# Altium integrated library Zarlink Comm Data Access Arrangement.IntLib: 3 symbols
Pins are listed as number, name and electrical type; pins without a type are passive.

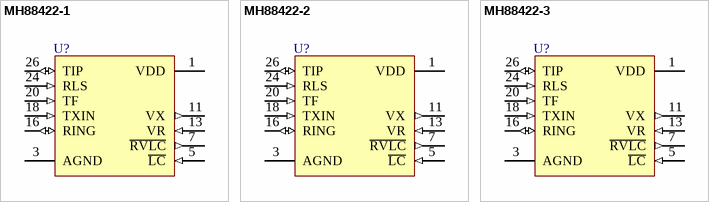
[diagram p0: symbols MH88422-1 to MH88422-3]

## MH88422-1
designator U?
Data Access Arrangement; Note: Pins 2, 4, 6, 8, 9, 10, 12, 14, 17, 21 and 25 are internally connected and cropped short. As a result they are not drawn. Pins 15, 19 and 23 are not present.; ComponentAvailability: Obsolete; Published: 8-Jun-2000; LatestRevisionDate: 17-Jul-2002; LatestRevisionNote: Re-released for DXP Platform.; DatasheetVersion: Issue 8 March 1997; PackageVersion: Mar-1997; PackageReference: DIL26; Publisher: Altium Limited; PackageDescription: DIP; 26 Leads (15 Absent); Row Spacing 22.86 mm; Pitch 2.54 mm; ComponentLink1Description: Manufacturer Link; ComponentLink1URL: http://products.zarlink.com; ComponentLink2Description: Datasheet; ComponentLink2URL: http://assets.zarlink.com/DS/zarlink_MH88422_OCT_01.pdf
footprint DIL26 (DIP; 26 Leads (15 Absent); Row Spacing 22.86 mm; Pitch 2.54 mm)
pins: 1 VDD (power), 3 AGND (power), 5 ~{LC} (in), 7 ~{RVLC} (out), 11 VX (out), 13 VR (in), 16 RING (io), 18 TXIN (in), 20 TF (in), 24 RLS (in), 26 TIP (io)

## MH88422-2
designator U?
Data Access Arrangement; Note: Pins 2, 4, 6, 8, 9, 10, 12, 14, 17, 21 and 25 are internally connected and cropped short. As a result they are not drawn. Pins 15, 19 and 23 are not present.; Published: 8-Jun-2000; LatestRevisionDate: 17-Jul-2002; LatestRevisionNote: Re-released for DXP Platform.; DatasheetVersion: Issue 8 March 1997; PackageVersion: Mar-1997; PackageReference: DIL26; Publisher: Altium Limited; PackageDescription: DIP; 26 Leads (15 Absent); Row Spacing 22.86 mm; Pitch 2.54 mm; ComponentLink1Description: Manufacturer Link; ComponentLink1URL: http://products.zarlink.com; ComponentLink2Description: Datasheet; ComponentLink2URL: http://assets.zarlink.com/DS/zarlink_MH88422_OCT_01.pdf
footprint DIL26 (DIP; 26 Leads (15 Absent); Row Spacing 22.86 mm; Pitch 2.54 mm)
pins: 1 VDD (power), 3 AGND (power), 5 ~{LC} (in), 7 ~{RVLC} (out), 11 VX (out), 13 VR (in), 16 RING (io), 18 TXIN (in), 20 TF (in), 24 RLS (in), 26 TIP (io)

## MH88422-3
designator U?
Data Access Arrangement; Note: Pins 2, 4, 6, 8, 9, 10, 12, 14, 17, 21 and 25 are internally connected and cropped short. As a result they are not drawn. Pins 15, 19 and 23 are not present.; ComponentAvailability: Obsolete; Published: 8-Jun-2000; LatestRevisionDate: 17-Jul-2002; LatestRevisionNote: Re-released for DXP Platform.; DatasheetVersion: Issue 8 March 1997; PackageVersion: Mar-1997; PackageReference: DIL26; Publisher: Altium Limited; PackageDescription: DIP; 26 Leads (15 Absent); Row Spacing 22.86 mm; Pitch 2.54 mm; ComponentLink1Description: Manufacturer Link; ComponentLink1URL: http://products.zarlink.com; ComponentLink2Description: Datasheet; ComponentLink2URL: http://assets.zarlink.com/DS/zarlink_MH88422_OCT_01.pdf
footprint DIL26 (DIP; 26 Leads (15 Absent); Row Spacing 22.86 mm; Pitch 2.54 mm)
pins: 1 VDD (power), 3 AGND (power), 5 ~{LC} (in), 7 ~{RVLC} (out), 11 VX (out), 13 VR (in), 16 RING (io), 18 TXIN (in), 20 TF (in), 24 RLS (in), 26 TIP (io)